# Altium footprint library 430451600.PcbLib: 1 footprints
Each footprint in its own frame and in the unit in brackets; x right, y up, seen from the top. Pads: shape width x height; smd on the part's side, far side on the other; paste and mask are expansions set on the pad; w line width, h text height; cw(c..) or ccw(c..) is an arc to the next point about the centre after c.
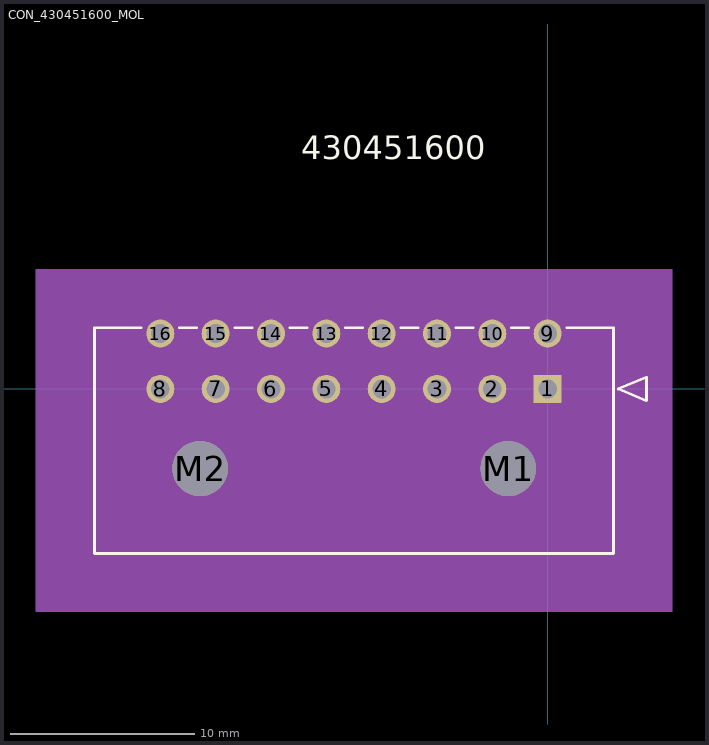
[diagram p0: the footprint, top view; thin cyan lines are the x and y axes]

## CON_430451600_MOL [mm]
pads (18):
  rect 1.52x1.52 hole 1.02 mask+0.076: 1(0,0)
  round 1.52 hole 1.02 mask+0.076: 2(-3,0) 3(-6,0) 4(-9,0) 5(-12,0) 6(-15,0) 7(-18,0) 8(-21,0) 9(0,3) 10(-3,3) 11(-6,3) 12(-9,3) 13(-12,3) 14(-15,3) 15(-18,3) 16(-21,3)
  round 3 hole 3 unplated mask+0.076: M1(-2.14,-4.32) M2(-18.84,-4.32)
Top Overlay:
  lines w0.152: -22.032,3.32 -24.575,3.32 -24.575,-8.92 3.575,-8.92 3.575,3.32 1.032,3.32 ; -19.968,3.32 -19.032,3.32 ; -16.968,3.32 -16.032,3.32 ; -13.968,3.32 -13.032,3.32 ; -10.968,3.32 -10.032,3.32 ; -7.968,3.32 -7.032,3.32 ; -4.968,3.32 -4.032,3.32 ; -1.968,3.32 -1.032,3.32 ; 3.829,0 5.353,0.635 5.353,-0.635 3.829,0
  text "430451600" at -13.357,12.44 h1.27
Mechanical 3:
  text "PTH_DRILL_SIZE:_1.02_MM,_TOLERANCE:_+0.05/-0.05" at -25.422,-15.5 h1.27
  text "NPTH_DRILL_SIZE:_3.0_MM,_TOLERANCE:_+0.05/-0.05" at -25.422,-18.04 h1.27
Mechanical 5:
  region: -27.75,6.495 6.75,6.495 6.75,-12.095 -27.75,-12.095
Mechanical 10:
  text "PTH_DRILL_SIZE:_1.02_MM,_TOLERANCE:_+0.05/-0.05" at -25.422,-15.5 h1.27
  text "NPTH_DRILL_SIZE:_3.0_MM,_TOLERANCE:_+0.05/-0.05" at -25.422,-18.04 h1.27
Mechanical 13:
  lines w0.127: -24.575,-8.92 3.575,-8.92 3.575,3.32 -24.575,3.32 -24.575,-8.92 ; 3.829,0 5.353,0.635 5.353,-0.635 3.829,0
  text "430451600" at -13.357,12.44 h1.27
Mechanical 15:
  region: 4.845,4.59 -25.845,4.59 -25.845,-10.19 4.845,-10.19
  lines w0.127: -25.845,-10.19 -25.845,4.59 4.845,4.59 4.845,-10.19 -25.845,-10.19
3D body: height 0.25, standoff 0, extent 0,0 0.254,0.254